# EAGLE library part SSOP16 (library jasons_stuff)
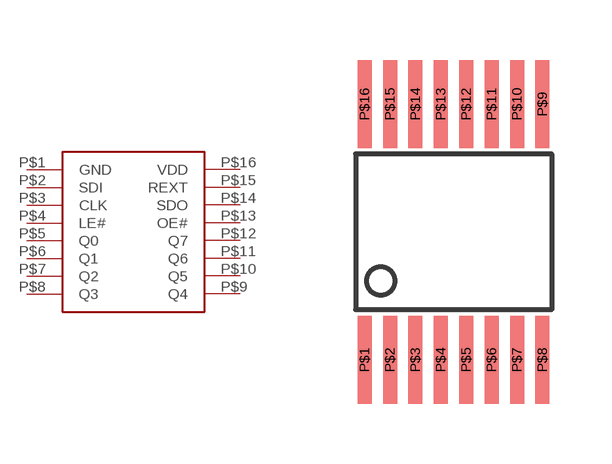
[diagram p18: symbol with the pads of SSOP16; footprint SSOP16]

Designator prefix -

## SSOP16  [SSOP16]
P$1  GND  pwr
P$2  SDI
P$3  CLK
P$4  LE#
P$5  Q0
P$6  Q1
P$7  Q2
P$8  Q3
P$9  Q4
P$10  Q5
P$11  Q6
P$12  Q7
P$13  OE#
P$14  SDO
P$15  REXT
P$16  VDD  pwr

## Footprint SSOP16 (pad centres in mm)
smd 0.35 x 2.2: P$1 -2.223,-3.2; P$2 -1.587,-3.2; P$3 -0.953,-3.2; P$4 -0.318,-3.2; P$5 0.318,-3.2; P$6 0.953,-3.2; P$7 1.587,-3.2; P$8 2.223,-3.2; P$9 2.223,3.2; P$10 1.587,3.2; P$11 0.953,3.2; P$12 0.318,3.2; P$13 -0.318,3.2; P$14 -0.953,3.2; P$15 -1.587,3.2; P$16 -2.223,3.2